# Altium footprint library Passives.PcbLib: 126 footprints (part 5 of 8)
Each footprint in its own frame and in the unit in brackets; x right, y up, seen from the top. Pads: shape width x height; smd on the part's side, far side on the other; paste and mask are expansions set on the pad; w line width, h text height; cw(c..) or ccw(c..) is an arc to the next point about the centre after c.
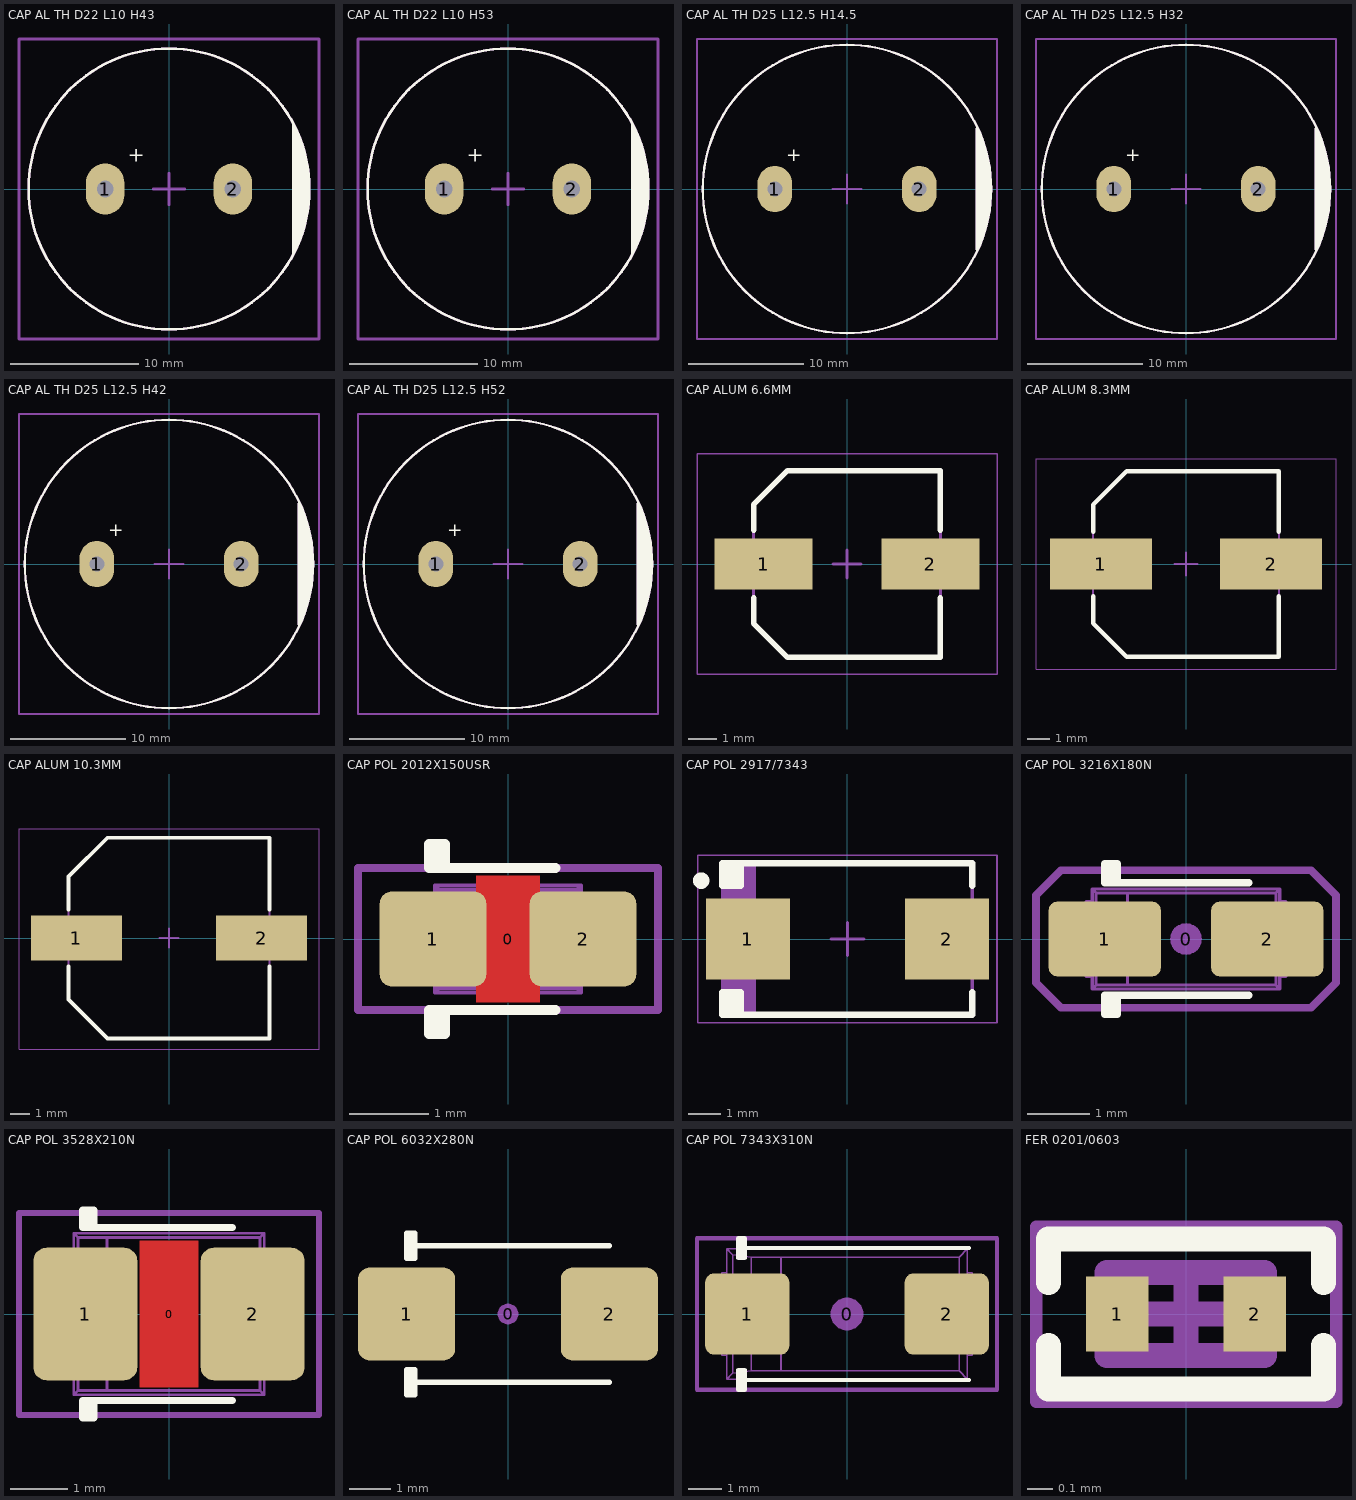
[diagram p4: the footprints below, top view; thin cyan lines are the x and y axes]

## CAP AL TH D22 L10 H43 [mm] "16MM Diameter, 7.5MM Lead Spacing Aluminium Capacitor"
height 43
pads (2):
  oval 3x4 hole 1.3: 1(-5,0) 2(5,0)
Top Overlay:
  circle w0.2: c0,0 r11
  region: 9.75,-5 9.75,5 10.75,2.5 11,1 11,0 11,-1 10.5,-3.25
  lines w0.2: 9.75,-5 9.75,5
  text "+" at -3.25,1.75 h2
Top Component Outline:
  circle w0.2: c0,0 r11
  lines w0.2: 9.75,-5 9.75,5
Top Courtyard:
  lines w0.2: -1.25,0 1.25,0 ; 0,-1.25 0,1.25 ; -11.75,-11.75 11.75,-11.75 11.75,11.75 -11.75,11.75 -11.75,-11.75
3D body "CAP ALTH D-22MM L-10MM H-43MM.STEP": height 43.2, standoff -3, extent -11,-10.983 11,10.984

## CAP AL TH D22 L10 H53 [mm] "16MM Diameter, 7.5MM Lead Spacing Aluminium Capacitor"
height 53
pads (2):
  oval 3x4 hole 1.3: 1(-5,0) 2(5,0)
Top Overlay:
  circle w0.2: c0,0 r11
  region: 9.75,-5 9.75,5 10.75,2.5 11,1 11,0 11,-1 10.5,-3.25
  lines w0.2: 9.75,-5 9.75,5
  text "+" at -3.25,1.75 h2
Top Component Outline:
  circle w0.2: c0,0 r11
  lines w0.2: 9.75,-5 9.75,5
Top Courtyard:
  lines w0.2: -1.25,0 1.25,0 ; 0,-1.25 0,1.25 ; -11.75,-11.75 -11.75,11.75 11.75,11.75 11.75,-11.75 -11.75,-11.75
3D body "CAP ALTH D-22MM L-10MM H-53MM.STEP": height 53.2, standoff -3, extent -11,-10.97 11,10.971

## CAP AL TH D25 L12.5 H14.5 [mm] "16MM Diameter, 7.5MM Lead Spacing Aluminium Capacitor"
height 14.5
pads (2):
  oval 3x4 hole 1.3: 1(-6.25,0) 2(6.25,0)
Top Overlay:
  circle w0.2: c0,0 r12.5
  region: 11.25,-5.25 11.25,5.375 12,3.5 12.25,2.5 12.5,1 12.5,0 12.5,-1 12,-3.5
  lines w0.2: 11.25,-5.25 11.25,5.25
  text "+" at -5.25,2 h2
Top Component Outline:
  circle w0.2: c0,0 r12.5
  lines w0.2: 11.25,-5.25 11.25,5.25
Top Courtyard:
  lines w0.2: -1.25,0 1.25,0 ; 0,-1.25 0,1.25 ; -13,-13 -13,13 13,13 13,-13 -13,-13
3D body "CAP ALTH D-25MM L-12.5MM H-14.5MM.STEP": height 14.7, standoff -3, extent -12.5,-12.489 12.5,12.489

## CAP AL TH D25 L12.5 H32 [mm] "16MM Diameter, 7.5MM Lead Spacing Aluminium Capacitor"
height 32
pads (2):
  oval 3x4 hole 1.3: 1(-6.25,0) 2(6.25,0)
Top Overlay:
  circle w0.2: c0,0 r12.5
  region: 11.25,-5.25 11.25,5.375 12,3.5 12.25,2.5 12.5,1 12.5,0 12.5,-1 12,-3.5
  lines w0.2: 11.25,-5.25 11.25,5.25
  text "+" at -5.25,2 h2
Top Component Outline:
  circle w0.2: c0,0 r12.5
  lines w0.2: 11.25,-5.25 11.25,5.25
Top Courtyard:
  lines w0.2: -1.25,0 1.25,0 ; 0,-1.25 0,1.25 ; -13,-13 -13,13 13,13 13,-13 -13,-13
3D body "CAP ALTH D-25MM L-12.5MM H-32MM.STEP": height 32.2, standoff -3, extent -12.5,-12.49 12.5,12.491

## CAP AL TH D25 L12.5 H42 [mm] "16MM Diameter, 7.5MM Lead Spacing Aluminium Capacitor"
height 42
pads (2):
  oval 3x4 hole 1.3: 1(-6.25,0) 2(6.25,0)
Top Overlay:
  circle w0.2: c0,0 r12.5
  region: 11.25,-5.25 11.25,5.375 12,3.5 12.25,2.5 12.5,1 12.5,0 12.5,-1 12,-3.5
  lines w0.2: 11.25,-5.25 11.25,5.25
  text "+" at -5.25,2 h2
Top Component Outline:
  circle w0.2: c0,0 r12.5
  lines w0.2: 11.25,-5.25 11.25,5.25
Top Courtyard:
  lines w0.2: -1.25,0 1.25,0 ; 0,-1.25 0,1.25 ; -13,-13 -13,13 13,13 13,-13 -13,-13
3D body "CAP ALTH D-25MM L-12.5MM H-42MM.STEP": height 42.2, standoff -3, extent -12.5,-12.491 12.5,12.492

## CAP AL TH D25 L12.5 H52 [mm] "16MM Diameter, 7.5MM Lead Spacing Aluminium Capacitor"
height 52
pads (2):
  oval 3x4 hole 1.3: 1(-6.25,0) 2(6.25,0)
Top Overlay:
  circle w0.2: c0,0 r12.5
  region: 11.25,-5.25 11.25,5.375 12,3.5 12.25,2.5 12.5,1 12.5,0 12.5,-1 12,-3.5
  lines w0.2: 11.25,-5.25 11.25,5.25
  text "+" at -5.25,2 h2
Top Component Outline:
  circle w0.2: c0,0 r12.5
  lines w0.2: 11.25,-5.25 11.25,5.25
Top Courtyard:
  lines w0.2: -1.25,0 1.25,0 ; 0,-1.25 0,1.25 ; -13,-13 13,-13 13,13 -13,13 -13,-13
3D body "CAP ALTH D-25MM L-12.5MM H-52MM.STEP": height 52.2, standoff -3, extent -12.5,-12.481 12.5,12.481

## CAP ALUM 6.6MM [mm] "Aluminum Electrolytic Capacitor, Body 6.60x6.60x7.70mm, IPC Low Density"
height 7.7
pads (2):
  rect 3.45x1.8 smd: 1(-2.95,0) 2(2.95,0)
Top Overlay:
  lines w0.2: -3.3,-1.2 -3.3,-2.1 -2.1,-3.3 3.3,-3.3 3.3,-1.2 ; -3.3,1.2 -3.3,2.1 -2.1,3.3 3.3,3.3 3.3,1.2
Top Component Outline:
  lines w0.1: -3.3,-2.1 -2.1,-3.3 3.3,-3.3 3.3,3.3 -2.1,3.3 -3.3,2.1 -3.3,-2.1
Top Courtyard:
  lines w0.05: -5.3,-3.9 -5.3,3.9 5.3,3.9 5.3,-3.9 -5.3,-3.9
  lines w0.1: -0.5,0 0.5,0 ; 0,-0.5 0,0.5
3D body "CAP ALUM 6_6mm.STEP": height 7.7, standoff 0, extent -3.5,-3.3 3.5,3.3

## CAP ALUM 8.3MM [mm] "Aluminum Electrolytic Capacitor, Body 8.30x8.30x10.50mm, IPC Low Density"
height 10.5
pads (2):
  rect 4.55x2.3 smd: 1(-3.8,0) 2(3.8,0)
Top Overlay:
  lines w0.2: -4.15,-1.45 -4.15,-2.65 -2.65,-4.15 4.15,-4.15 4.15,-1.45 ; -4.15,1.45 -4.15,2.65 -2.65,4.15 4.15,4.15 4.15,1.45
Top Component Outline:
  lines w0.1: -4.15,-2.65 -2.65,-4.15 4.15,-4.15 4.15,4.15 -2.65,4.15 -4.15,2.65 -4.15,-2.65
Top Courtyard:
  lines w0.05: -6.7,-4.7 -6.7,4.7 6.7,4.7 6.7,-4.7 -6.7,-4.7
  lines w0.1: -0.5,0 0.5,0 ; 0,-0.5 0,0.5
3D body "CAP ALUM 8_3mm.STEP": height 10.5, standoff 0, extent -4.95,-4.15 4.95,4.15

## CAP ALUM 10.3MM [mm] "Aluminum Electrolytic Capacitor, Body 10.30x10.30x10.50mm, IPC Low Density"
height 10.5
pads (2):
  rect 4.65x2.3 smd: 1(-4.75,0) 2(4.75,0)
Top Overlay:
  lines w0.2: -5.15,-1.45 -5.15,-3.15 -3.15,-5.15 5.15,-5.15 5.15,-1.45 ; -5.15,1.45 -5.15,3.15 -3.15,5.15 5.15,5.15 5.15,1.45
Top Component Outline:
  lines w0.1: -5.15,-3.15 -3.15,-5.15 5.15,-5.15 5.15,5.15 -3.15,5.15 -5.15,3.15 -5.15,-3.15
Top Courtyard:
  lines w0.05: -7.7,-5.7 -7.7,5.6 7.7,5.6 7.7,-5.7 -7.7,-5.7
  lines w0.1: -0.5,0 0.5,0 ; 0,-0.5 0,0.5
3D body "CAP ALUM 10_3mm.STEP": height 10.5, standoff 0, extent -5.8,-5.15 5.8,5.15

## CAP POL 2012X150USR [mm] "Molded body capacitor, Body 2.0x1.2mm, 0805, IPC Medium Density"
height 1.5
pads (3):
  round 0.254 on Mech14: 0(0,0)
  rrect25% 1.35x1.2 smd: 1(-0.95,0) 2(0.95,0)
Top Layer:
  pour cut-out: -0.4,0.8 0.4,0.8 0.4,-0.8 -0.4,-0.8
Top Overlay:
  lines w0.127: -0.9,-1.2 -0.9,-0.9 ; -0.9,0.9 -0.9,1.2 ; -0.8,-0.9 -0.8,-1.2 -1,-1.2 -1,-0.9 0.6,-0.9 ; -0.8,0.9 -0.8,1.2 -1,1.2 -1,0.9 0.6,0.9
Top Component Outline:
  lines w0.05: -1.025,-0.25 -0.925,-0.25 ; -1.025,0.25 -0.925,0.25 ; -0.925,-0.5 -1.025,-0.5 -1.025,0.5 -0.925,0.5 ; -0.373,-0.623 -0.373,0.623 ; 0.925,-0.5 1.025,-0.5 1.025,0.5 0.925,0.5 ; 0.925,-0.25 1.025,-0.25 ; 0.925,0.25 1.025,0.25 ; -0.925,-0.675 0.925,-0.675 ; -0.925,-0.675 -0.925,0.675 ; -0.925,-0.675 -0.873,-0.623 ; -0.925,0.675 0.925,0.675 ; -0.925,0.675 -0.873,0.623 ; -0.873,-0.623 0.873,-0.623 ; -0.873,-0.623 -0.873,0.623 ; -0.873,0.623 0.873,0.623 ; 0.873,-0.623 0.925,-0.675 ; 0.873,-0.623 0.873,0.623 ; 0.873,0.623 0.925,0.675 ; 0.925,-0.675 0.925,0.675
Bottom Component Outline:
  lines w0.1: -1.9,-0.9 1.9,-0.9 1.9,0.9 -1.9,0.9 -1.9,-0.9
3D body "CAPMP2012X150N.STEP": height 1.5, standoff 0, extent -1.025,-0.675 1.025,0.675

## CAP POL 2917/7343 [mm] "Molded Capacitor, 2-Leads, Body 7.30x4.30mm, IPC Medium Density"
height 4.3
pads (2):
  rect 2.55x2.45 smd: 1(-3.025,0) 2(3.025,0)
Top Overlay:
  circle w0.25: c-4.45,1.775 r0.125
  rectangle: -3.8,-2.3 -3.25,-1.625
  rectangle: -3.8,1.625 -3.25,2.3
  lines w0.2: -3.25,-2.3 -3.25,-1.625 -3.8,-1.625 -3.8,-2.3 3.8,-2.3 3.8,-1.625 ; -3.25,2.3 -3.25,1.625 -3.8,1.625 -3.8,2.3 3.8,2.3 3.8,1.625
Top Component Outline:
  rectangle: -3.8,-2.3 -2.778,2.3
  lines w0.1: -3.8,-2.3 -3.8,2.3 3.8,2.3 3.8,-2.3 -3.8,-2.3
Top Courtyard:
  lines w0.05: -4.55,-2.55 -4.55,2.55 4.55,2.55 4.55,-2.55 -4.55,-2.55
  lines w0.1: -0.5,0 0.5,0 ; 0,-0.5 0,0.5
3D body "Tantalum Capacitor case E.STEP": height 4.1, standoff 0, extent -3.65,-2.15 3.65,2.15

## CAP POL 3216X180N [mm] "Capacitor, polarized, Molded Body, EIA 535BAAC size A; 3.20mm L X 1.60mm W X 1.80mm H"
height 1.8
pads (3):
  round 0.508 on Mech14: 0(0,0)
  rrect25% 1.8x1.2 smd: 1(-1.3,0) 2(1.3,0)
Top Overlay:
  lines w0.127: -1.2,-1.2 -1.2,-0.9 ; -1.2,0.9 -1.2,1.2 ; -1.1,-0.9 -1.1,-1.2 -1.3,-1.2 -1.3,-0.9 1,-0.9 ; -1.1,0.9 -1.1,1.2 -1.3,1.2 -1.3,0.9 1,0.9
Top Component Outline:
  lines w0.05: -1.6,-0.36 -1.499,-0.36 ; -1.6,0.36 -1.499,0.36 ; -1.499,-0.6 -1.6,-0.6 -1.6,0.6 -1.499,0.6 ; -0.937,-0.737 -0.937,0.737 ; 1.499,-0.6 1.6,-0.6 1.6,0.6 1.499,0.6 ; 1.499,-0.36 1.6,-0.36 ; 1.499,0.36 1.6,0.36 ; -1.5,-0.8 -1.5,0.8 ; -1.5,-0.8 1.5,-0.8 ; -1.5,-0.8 -1.437,-0.737 ; -1.5,0.8 1.5,0.8 ; -1.5,0.8 -1.437,0.737 ; -1.437,-0.737 -1.437,0.737 ; -1.437,-0.737 1.437,-0.737 ; -1.437,0.737 1.437,0.737 ; 1.437,-0.737 1.437,0.737 ; 1.437,-0.737 1.5,-0.8 ; 1.437,0.737 1.5,0.8 ; 1.5,-0.8 1.5,0.8
Bottom Component Outline:
  lines w0.127: -2.4,-0.7 -2,-1.1 2,-1.1 2.4,-0.7 2.4,0.7 2,1.1 -2,1.1 -2.4,0.7 -2.4,-0.7
3D body "CAPMP3216X180N.STEP": height 1.8, standoff 0, extent -1.6,-0.8 1.6,0.8

## CAP POL 3528X210N [mm] "Molded body capacitor, Body 3.5x2.8mm, 1210, IPC Nominal settings"
height 2.1
pads (3):
  round 0.254 on Mech14: 0(0,0)
  rrect25% 1.8x2.3 smd: 1(-1.45,0) 2(1.45,0)
Top Layer:
  pour cut-out: -0.508,1.27 0.508,1.27 0.508,-1.27 -0.508,-1.27
Top Overlay:
  lines w0.127: -1.4,-1.8 -1.4,-1.5 ; -1.4,1.5 -1.4,1.8 ; -1.3,-1.5 -1.3,-1.8 -1.5,-1.8 -1.5,-1.5 1.1,-1.5 ; -1.3,1.5 -1.3,1.8 -1.5,1.8 -1.5,1.5 1.1,1.5
Top Component Outline:
  lines w0.05: -1.75,-0.55 -1.65,-0.55 ; -1.75,0.55 -1.65,0.55 ; -1.65,-1.1 -1.75,-1.1 -1.75,1.1 -1.65,1.1 ; -1.077,-1.327 -1.077,1.327 ; 1.65,-1.1 1.75,-1.1 1.75,1.1 1.65,1.1 ; 1.65,-0.55 1.75,-0.55 ; 1.65,0.55 1.75,0.55 ; -1.65,-1.4 1.65,-1.4 ; -1.65,-1.4 -1.65,1.4 ; -1.65,-1.4 -1.577,-1.327 ; -1.65,1.4 1.65,1.4 ; -1.65,1.4 -1.577,1.327 ; -1.577,-1.327 1.577,-1.327 ; -1.577,-1.327 -1.577,1.327 ; -1.577,1.327 1.577,1.327 ; 1.577,-1.327 1.65,-1.4 ; 1.577,-1.327 1.577,1.327 ; 1.577,1.327 1.65,1.4 ; 1.65,-1.4 1.65,1.4
Bottom Component Outline:
  lines w0.1: -2.6,-1.75 2.6,-1.75 2.6,1.75 -2.6,1.75 -2.6,-1.75
3D body "CAPMP3528X210N.STEP": height 2.1, standoff 0, extent -1.75,-1.4 1.75,1.4

## CAP POL 6032X280N [mm] "Capacitor, polarized, Molded Body, EIA 535BAAC size C; 6.00mm L X 3.20mm W X 2.80mm H"
height 2.8
pads (3):
  round 0.508 on Mech14: 0(0,0)
  rrect25% 2.35x2.25 smd: 1(-2.45,0) 2(2.45,0)
Top Overlay:
  lines w0.127: -2.45,-1.65 2.45,-1.65 ; -2.45,1.65 2.45,1.65 ; -2.35,-1.95 -2.35,-1.65 -2.35,-1.35 ; -2.35,1.35 -2.35,1.65 -2.35,1.95 ; -2.45,-1.95 -2.45,-1.35 -2.25,-1.35 -2.25,-1.65 -2.25,-1.95 -2.45,-1.95 ; -2.45,1.35 -2.45,1.95 -2.25,1.95 -2.25,1.65 -2.25,1.35 -2.45,1.35
3D body: height 2.8, standoff 0, extent -3,-1.6 3,1.6

## CAP POL 7343X310N [mm] "Molded body capacitor, Body 7.3x4.3mm, 2917, IPC Nominal settings"
height 3.1
pads (3):
  round 1 on Mech14: 0(0,0)
  rrect20% 2.55x2.45 smd: 1(-3.025,0) 2(3.025,0)
Top Overlay:
  lines w0.127: -3.3,-2 3.7,-2 ; -3.3,2 3.7,2 ; -3.2,-2.3 -3.2,-2 -3.2,-1.7 ; -3.2,1.7 -3.2,2 -3.2,2.3 ; -3.3,-2.3 -3.1,-2.3 -3.1,-2 -3.1,-1.7 -3.3,-1.7 -3.3,-2.3 ; -3.3,1.7 -3.1,1.7 -3.1,2 -3.1,2.3 -3.3,2.3 -3.3,1.7
Top Component Outline:
  lines w0.05: -3.8,-0.5 -3.65,-0.5 ; -3.8,0.5 -3.65,0.5 ; -3.67,-0.5 -3.67,0.5 ; -3.65,-1.25 -3.8,-1.25 -3.8,1.25 -3.65,1.25 ; -2.901,-0.575 -2.901,0.575 ; 3.65,-1.25 3.8,-1.25 3.8,1.25 3.65,1.25 ; 3.65,-0.5 3.8,-0.5 ; 3.65,0.5 3.8,0.5 ; 3.67,-0.5 3.67,0.5 ; -3.65,-1.975 3.65,-1.975 ; -3.65,-1.975 -3.471,-1.796 ; -3.65,-1.975 -3.65,1.975 ; -3.65,1.975 -3.471,1.796 ; -3.65,1.975 3.65,1.975 ; -3.471,-1.796 -2.907,-1.727 ; -3.471,-1.796 -3.471,1.796 ; -3.471,1.796 -2.907,1.727 ; -2.907,-1.727 -2.001,-1.727 ; -2.907,-1.727 -2.907,-0.575 -2.001,-0.575 -2.001,-1.727 ; -2.907,1.727 -2.001,1.727 ; -2.907,1.727 -2.907,0.575 -2.001,0.575 -2.001,1.727 ; -2.001,-1.727 3.401,-1.726 ; -2.001,1.727 3.401,1.726 ; 3.401,-1.726 3.65,-1.975 ; 3.401,-1.726 3.401,1.726 ; 3.401,1.726 3.65,1.975 ; 3.65,-1.975 3.65,1.975
Bottom Component Outline:
  lines w0.127: -4.55,-2.3 4.55,-2.3 4.55,2.3 -4.55,2.3 -4.55,-2.3
3D body "CAPMP7343X310N.STEP": height 3.1, standoff 0, extent -3.8,-1.975 3.8,1.975

## FER 0201/0603 [mm] "Chip Inductor, 2-Leads, Body 0.60x0.30mm, IPC Medium Density"
height 0.33
pads (2):
  rect 0.25x0.3 smd: 1(-0.275,0) 2(0.275,0)
Top Overlay:
  lines w0.1: -0.55,-0.125 -0.55,-0.3 0.55,-0.3 0.55,-0.125 ; -0.55,0.125 -0.55,0.3 0.55,0.3 0.55,0.125
Top Component Outline:
  lines w0.1: -0.315,-0.165 0.315,-0.165 0.315,0.165 -0.315,0.165 -0.315,-0.165
Top Courtyard:
  lines w0.05: -0.6,-0.35 0.6,-0.35 0.6,0.35 -0.6,0.35 -0.6,-0.35
  lines w0.1: -0.165,0 0.165,0 ; 0,-0.165 0,0.165
3D body "FER 0201.STEP": height 0.29, standoff -0.01, extent -0.3,-0.15 0.3,0.15